# Altium schematic symbol library RC0805FR-072KP.SchLib: 1 symbol
Pins are listed as number, name and electrical type; pins without a type are passive.

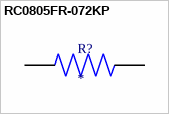
[diagram p0: symbol RC0805FR-072KP]

## RC0805FR-072KP
designator R?
RES SMD 2K OHM 1% 1/8W 0805; MP: RC0805FR-072KP; Package: None; Price: None; Value: *; Availability: Unavailable
footprint RESC2012X60N
pins: 1, 2